# EAGLE library part ATXMEGA128A1 (library atmel)
MICROCONTROLLER Features High-performance, Low-power 8/16-bit AVR XMEGA Microcontroller Non-Volatile Program and Data Memories - 64K - 384K Bytes of In-System Self-Programmable Flash - 4K - 8K Bytes Boot Section with Independent Lock Bits - 2 KB - 4 KB EEPROM - 4 KB - 32 KB Internal SRAM External Bus Interface for up to 16M bytes SRAM External Bus Interface for up to 128M bit SDRAM Peripheral Features - Four-channel DMA Controller with support for external requests - Eight-channel Event System - Eight 16-bit Timer/Counters Four Timer/Counters with 4 Output Compare or Input Capture channels Four Timer/Counters with 2 Output Compare or Input Capture channels High-Resolution Extension on all Timer/Counters Advanced Waveform Extension on two Timer/Counters - Eight USARTs IrDA modulation/demodulation for one USART - Four Two-Wire Interfaces with dual address match (I2C and SMBus compatible) - Four SPI (Serial Peripheral Interface) peripherals - AES and DES Crypto Engine - 16-bit Real Time Counter with separate Oscillator - Two Eight-channel, 12-bit, 2 Msps Analog to Digital Converters - Two Two-channel, 12-bit, 1 Msps Digital to Analog Converters - Four Analog Comparators with Window compare function - External Interrupts on all General Purpose I/O pins - Programmable Watchdog Timer with Separate On-chip Ultra Low Power Oscillator Special Microcontroller Features - Power-on Reset and Programmable Brown-out Detection - Internal and External Clock Options with PLL and Prescaler - Programmable Multi-level Interrupt Controller - Sleep Modes: Idle, Power-down, Standby, Power-save, Extended Standby - Advanced Programming, Test and Debugging Interfaces JTAG (IEEE 1149.1 Compliant) Interface for programming, test and debugging PDI (Program and Debug Interface) for programming and debugging I/O and Packages - 78 Programmable I/O Lines - 100 - lead TQFP - 100 - ball CBGA - 100 - ball VFBGA Operating Voltage - 1.6 - 3.6V Speed performance - 0 - 12 MHz @ 1.6 - 3.6V - 0 - 32 MHz @ 2.7 - 3.6V Drawn by Dipl.-Ing. (FH) Robert Siegler Created: 27.05.09
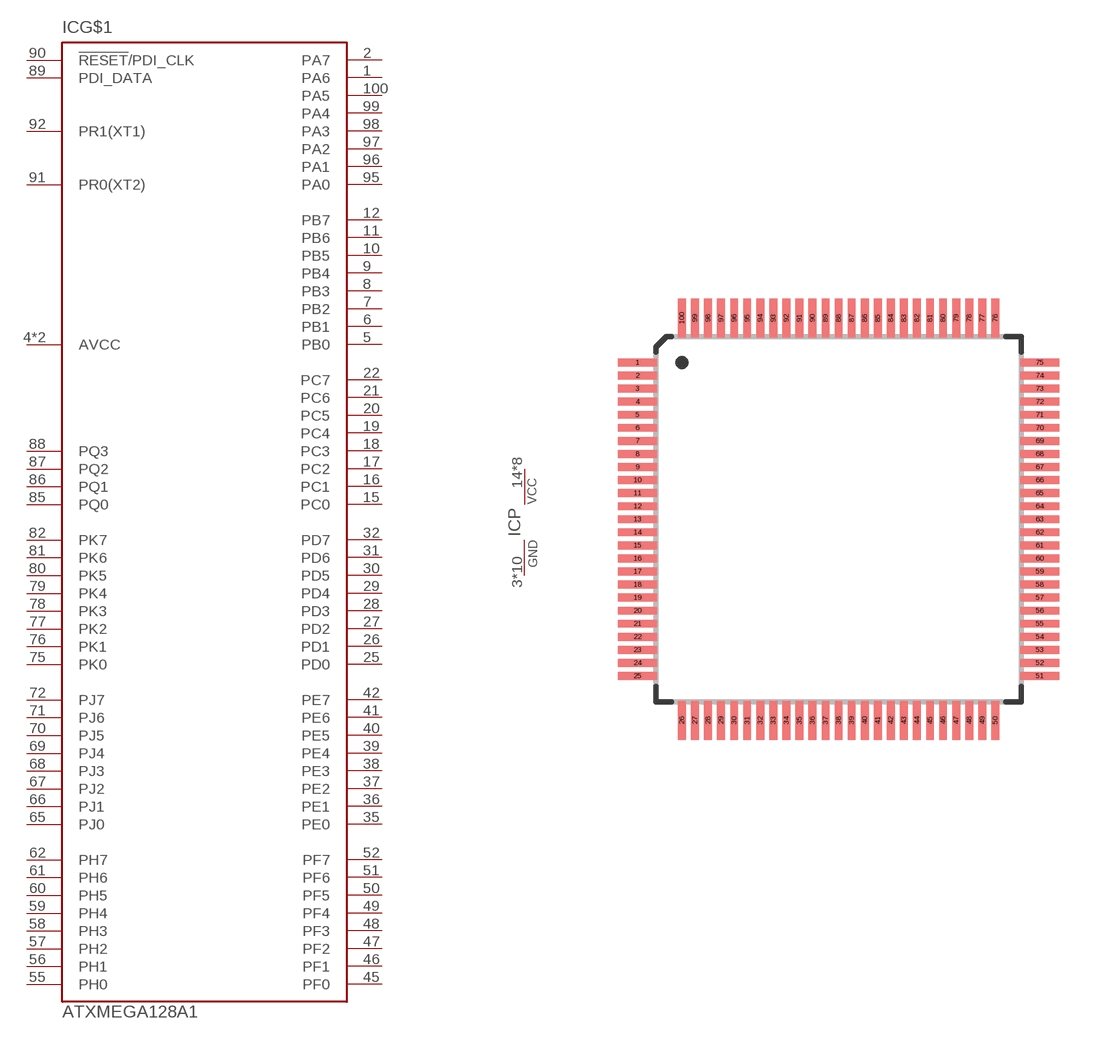
[diagram p98: symbol with the pads of QFP100_14X14_0.50; footprint QFP100_14X14_0.50]

Designator prefix IC; gates G$1=XMEGA128A1 P=PWR

## ATXMEGA128A1  [QFP100_14X14_0.50]
1  G$1:PA6
2  G$1:PA7
3  P:GND  pwr
4  G$1:AVCC  pwr
5  G$1:PB0
6  G$1:PB1
7  G$1:PB2
8  G$1:PB3
9  G$1:PB4
10  G$1:PB5
11  G$1:PB6
12  G$1:PB7
13  P:GND  pwr
14  P:VCC  pwr
15  G$1:PC0
16  G$1:PC1
17  G$1:PC2
18  G$1:PC3
19  G$1:PC4
20  G$1:PC5
21  G$1:PC6
22  G$1:PC7
23  P:GND  pwr
24  P:VCC  pwr
25  G$1:PD0
26  G$1:PD1
27  G$1:PD2
28  G$1:PD3
29  G$1:PD4
30  G$1:PD5
31  G$1:PD6
32  G$1:PD7
33  P:GND  pwr
34  P:VCC  pwr
35  G$1:PE0
36  G$1:PE1
37  G$1:PE2
38  G$1:PE3
39  G$1:PE4
40  G$1:PE5
41  G$1:PE6
42  G$1:PE7
43  P:GND  pwr
44  P:VCC  pwr
45  G$1:PF0
46  G$1:PF1
47  G$1:PF2
48  G$1:PF3
49  G$1:PF4
50  G$1:PF5
51  G$1:PF6
52  G$1:PF7
53  P:GND  pwr
54  P:VCC  pwr
55  G$1:PH0
56  G$1:PH1
57  G$1:PH2
58  G$1:PH3
59  G$1:PH4
60  G$1:PH5
61  G$1:PH6
62  G$1:PH7
63  P:GND  pwr
64  P:VCC  pwr
65  G$1:PJ0
66  G$1:PJ1
67  G$1:PJ2
68  G$1:PJ3
69  G$1:PJ4
70  G$1:PJ5
71  G$1:PJ6
72  G$1:PJ7
73  P:GND  pwr
74  P:VCC  pwr
75  G$1:PK0
76  G$1:PK1
77  G$1:PK2
78  G$1:PK3
79  G$1:PK4
80  G$1:PK5
81  G$1:PK6
82  G$1:PK7
83  P:VCC  pwr
84  P:GND  pwr
85  G$1:PQ0
86  G$1:PQ1
87  G$1:PQ2
88  G$1:PQ3
89  G$1:PDI_DATA
90  G$1:!RESET!/PDI_CLK  in
91  G$1:PR0(XT2)
92  G$1:PR1(XT1)
93  P:GND  pwr
94  G$1:AVCC  pwr
95  G$1:PA0
96  G$1:PA1
97  G$1:PA2
98  G$1:PA3
99  G$1:PA4
100  G$1:PA5

## Footprint QFP100_14X14_0.50 (pad centres in mm)
Thin Plasic Quad Flat Package, 14mm x 14mm body, 0.50mm lead pitch JEDEC: MS-026 AED ATMEL Code: 100A
smd 1.5 x 0.3: 1 -7.7,6; 2 -7.7,5.5; 3 -7.7,5; 4 -7.7,4.5; 5 -7.7,4; 6 -7.7,3.5; 7 -7.7,3; 8 -7.7,2.5; 9 -7.7,2; 10 -7.7,1.5; 11 -7.7,1; 12 -7.7,0.5; 13 -7.7,0; 14 -7.7,-0.5; 15 -7.7,-1; 16 -7.7,-1.5; 17 -7.7,-2; 18 -7.7,-2.5; 19 -7.7,-3; 20 -7.7,-3.5; 21 -7.7,-4; 22 -7.7,-4.5; 23 -7.7,-5; 24 -7.7,-5.5; 25 -7.7,-6; 51 7.7,-6; 52 7.7,-5.5; 53 7.7,-5; 54 7.7,-4.5; 55 7.7,-4; 56 7.7,-3.5; 57 7.7,-3; 58 7.7,-2.5; 59 7.7,-2; 60 7.7,-1.5; 61 7.7,-1; 62 7.7,-0.5; 63 7.7,0; 64 7.7,0.5; 65 7.7,1; 66 7.7,1.5; 67 7.7,2; 68 7.7,2.5; 69 7.7,3; 70 7.7,3.5; 71 7.7,4; 72 7.7,4.5; 73 7.7,5; 74 7.7,5.5; 75 7.7,6
smd 0.3 x 1.5: 26 -6,-7.7; 27 -5.5,-7.7; 28 -5,-7.7; 29 -4.5,-7.7; 30 -4,-7.7; 31 -3.5,-7.7; 32 -3,-7.7; 33 -2.5,-7.7; 34 -2,-7.7; 35 -1.5,-7.7; 36 -1,-7.7; 37 -0.5,-7.7; 38 0,-7.7; 39 0.5,-7.7; 40 1,-7.7; 41 1.5,-7.7; 42 2,-7.7; 43 2.5,-7.7; 44 3,-7.7; 45 3.5,-7.7; 46 4,-7.7; 47 4.5,-7.7; 48 5,-7.7; 49 5.5,-7.7; 50 6,-7.7; 76 6,7.7; 77 5.5,7.7; 78 5,7.7; 79 4.5,7.7; 80 4,7.7; 81 3.5,7.7; 82 3,7.7; 83 2.5,7.7; 84 2,7.7; 85 1.5,7.7; 86 1,7.7; 87 0.5,7.7; 88 0,7.7; 89 -0.5,7.7; 90 -1,7.7; 91 -1.5,7.7; 92 -2,7.7; 93 -2.5,7.7; 94 -3,7.7; 95 -3.5,7.7; 96 -4,7.7; 97 -4.5,7.7; 98 -5,7.7; 99 -5.5,7.7; 100 -6,7.7